# Altium footprint library IND (2).PcbLib: 5 footprints
Each footprint in its own frame and in the unit in brackets; x right, y up, seen from the top. Pads: shape width x height; smd on the part's side, far side on the other; paste and mask are expansions set on the pad; w line width, h text height; cw(c..) or ccw(c..) is an arc to the next point about the centre after c.
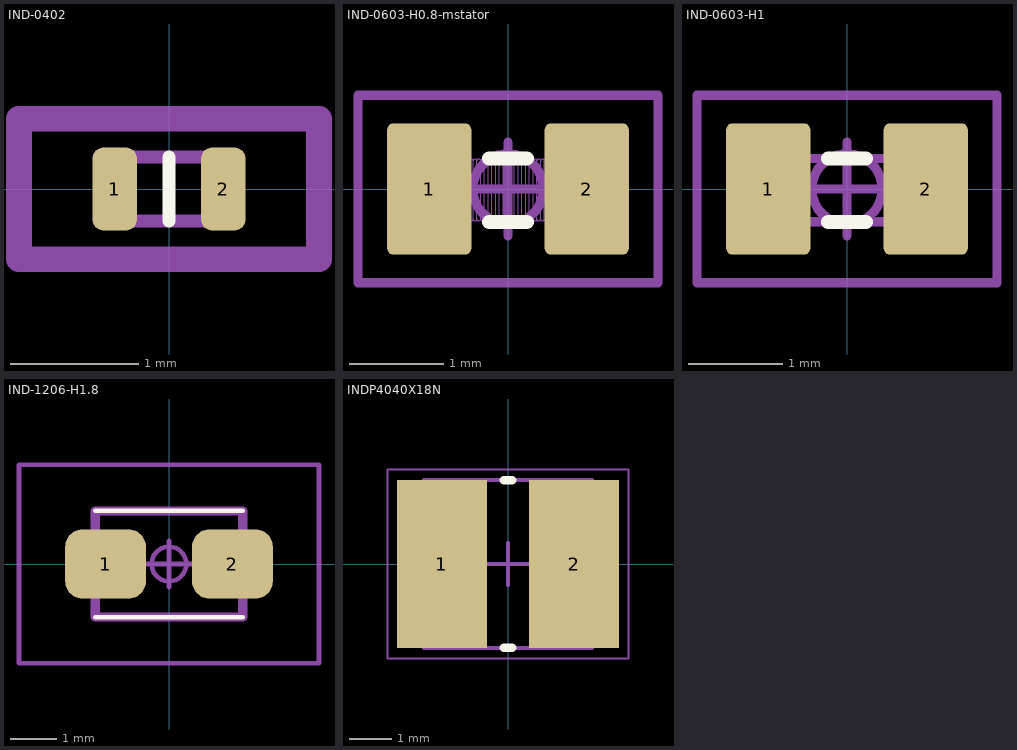
[diagram p0: the footprints below, top view; thin cyan lines are the x and y axes]

## IND-0402 [mm]
pads (2):
  rrect50% 0.35x0.65 smd: 1(-0.425,0) 2(0.425,0)
Top Overlay:
  lines w0.1: 0,-0.25 0,0.25
Top Assembly:
  lines w0.1: -0.5,-0.25 -0.5,0.25 0.5,0.25 0.5,-0.25 -0.5,-0.25
Bottom Component Outline:
  lines w0.2: -1.175,-0.55 -1.175,0.55 1.175,0.55 1.175,-0.55 -1.175,-0.55
3D body "LQG15HN12NJ02B.stp": height 0.55, standoff 0, extent -0.5,-0.25 0.5,0.25

## IND-0603-H0.8-mstator [mm] "КИВ-18"
height 0.8
pads (2):
  rrect15% 0.9x1.4 smd: 1(-0.84,0) 2(0.84,0)
Top Overlay:
  lines w0.15: -0.2,-0.35 0.2,-0.35 ; -0.2,0.325 0.2,0.325
Top Assembly:
  drawing of 438 lines, arcs and shapes, not listed
Top Component Outline:
  circle w0.1: c0,0 r0.375
  lines w0.1: -0.5,0 0.5,0 ; 0,-0.5 0,0.5 ; -1.6,-1 -1.6,1 1.6,1 1.6,-1 -1.6,-1
3D body "КИВ18.STEP": height 0.73, standoff -0.03, extent -0.855,-0.43 0.855,0.43

## IND-0603-H1 [mm]
height 0.8
pads (2):
  rrect15% 0.9x1.4 smd: 1(-0.84,0) 2(0.84,0)
Top Overlay:
  lines w0.15: -0.2,-0.35 0.2,-0.35 ; -0.2,0.325 0.2,0.325
Top Assembly:
  lines w0.1: -0.45,-0.35 0.45,-0.35 ; -0.45,0.325 0.45,0.325 ; -0.846,-0.437 -0.45,-0.437 -0.45,0.423 -0.846,0.423 -0.846,-0.437 ; 0.45,-0.437 0.864,-0.437 0.864,0.423 0.45,0.423 0.45,-0.437
Top Component Outline:
  circle w0.1: c0,0 r0.375
  lines w0.1: -0.5,0 0.5,0 ; 0,-0.5 0,0.5 ; -1.6,-1 1.6,-1 1.6,1 -1.6,1 -1.6,-1
3D body: height 1, standoff 0, extent -0.855,-0.43 0.855,0.43

## IND-1206-H1.8 [mm]
pads (2):
  rrect50% 1.75x1.5 smd: 1(-1.375,0) 2(1.375,0)
Top Overlay:
  lines w0.1: -1.6,-1.15 1.6,-1.15 ; -1.6,1.15 1.6,1.15
Top Assembly:
  lines w0.2: -1.6,-1.15 1.6,-1.15 1.6,1.15 -1.6,1.15 -1.6,-1.15
Top Component Outline:
  circle w0.1: c0,0 r0.375
  lines w0.1: -0.5,0 0.5,0 ; 0,-0.5 0,0.5 ; -3.25,-2.15 3.25,-2.15 3.25,2.15 -3.25,2.15 -3.25,-2.15
3D body "LQH31HNR14J03K.stp": height 2, standoff 0, extent -1.6,-1.15 1.6,1.15

## INDP4040X18N [mm] "Precision Wire Wound Inductor, 2-Leads, Body 4,00x4,00mm, IPC Medium Density"
height 1.8
pads (2):
  rect 2.15x4 smd: 1(-1.575,0) 2(1.575,0)
Top Overlay:
  lines w0.2: -0.1,-2 0.1,-2 ; -0.1,2 0.1,2
Top Assembly:
  lines w0.1: -2,-2 2,-2 2,2 -2,2 -2,-2
Top Courtyard:
  lines w0.05: -2.875,-2.25 2.875,-2.25 2.875,2.25 -2.875,2.25 -2.875,-2.25
  lines w0.1: -0.5,0 0.5,0 ; 0,-0.5 0,0.5
3D body "INDP4040X18N.step": height 1.9, standoff 0, extent -2.1,-2 2.1,2